# Altium footprint library HFCG3000.PcbLib: 1 footprints
Each footprint in its own frame and in the unit in brackets; x right, y up, seen from the top. Pads: shape width x height; smd on the part's side, far side on the other; paste and mask are expansions set on the pad; w line width, h text height; cw(c..) or ccw(c..) is an arc to the next point about the centre after c.
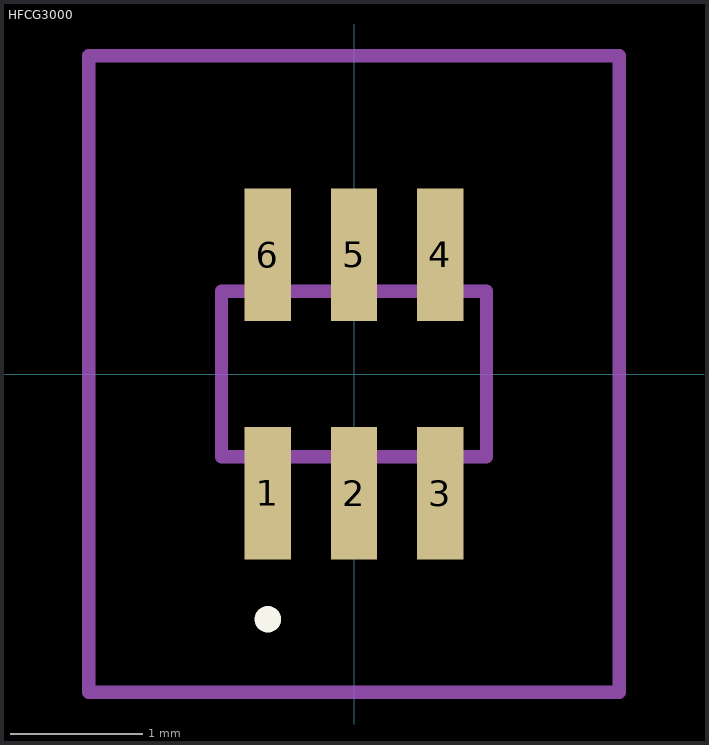
[diagram p0: the footprint, top view; thin cyan lines are the x and y axes]

## HFCG3000 [mm]
pads (6):
  rect 0.35x1 smd: 1(-0.65,-0.9) 2(0,-0.9) 3(0.65,-0.9) 4(0.65,0.9) 5(0,0.9) 6(-0.65,0.9)
Top Overlay:
  lines w0.1: -0.65,-1.9 cw(c-0.65,-1.85) -0.65,-1.8 ; -0.65,-1.9 -0.65,-1.9 ; -0.65,-1.9 ccw(c-0.65,-1.85) -0.65,-1.8 ; -0.65,-1.8 -0.65,-1.8
Mechanical 15:
  lines w0.1: -1,-0.625 1,-0.625 1,0.625 -1,0.625 -1,-0.625
Mechanical 20:
  lines w0.1: -2,-2.4 2,-2.4 2,2.4 -2,2.4 -2,-2.4